# EAGLE library part PIC12*F1822 (library kursach_final)
Low pincount microcontroller http://www.microchip.com/wwwproducts/Devices.aspx?product=PIC12F1822 Properties Parameter Name Value Program Memory Type Flash Program Memory (KB) 3.5 CPU Speed (MIPS) 8 RAM Bytes 128 Data EEPROM (bytes) 256 Digital Communication Peripherals 1-UART, 1-A/E/USART, 1-SPI, 1-I2C1-MSSP(SPI/I2C) Capture/Compare/PWM Peripherals 1 ECCP / Timers 2 x 8-bit, 1 x 16-bit ADC 4 ch, 10-bit Comparators 1 Temperature Range (C) -40 to 125 Operating Voltage Range (V) 1.8 to 5.5 Pin Count 8 XLP Yes Cap Touch Channels 4 Features Enhanced Mid-range Core with 49 Instruction, 16 Stack Levels Flash Program Memory with self read/write capability Internal 32MHz oscillator Integrated Capacitive mTouch Sensing Module Data Signal Modulator Module MI2C, SPI, EUSART w/auto baud ECCP (Enhanced/Capture Compare PWM) Module Comparator with selectable Voltage Reference 4 Channel 10b ADC with Voltage Reference 25mA Source/Sink current I/O Two 8-bit Timers (TMR0/TMR2) One 16-bit Timer (TMR1) Extended Watchdog Timer (EWDT) Enhanced Power-On/Off-Reset Brown-Out Reset (BOR) In Circuit Serial Programming (ICSP) On Board In-Circuit Debug Wide Operating Voltage (1.8V – 5.5V) Low Power PIC12LF182x variants (1.8V – 3.6V) Standby Current (PIC12LF182X): 20 nA @ 1.8V, typical Active Current(PIC12LF1822): 50 uA/MHz @ 1.8V, typical Library from www.mikroelektroniikka.fi/lbr
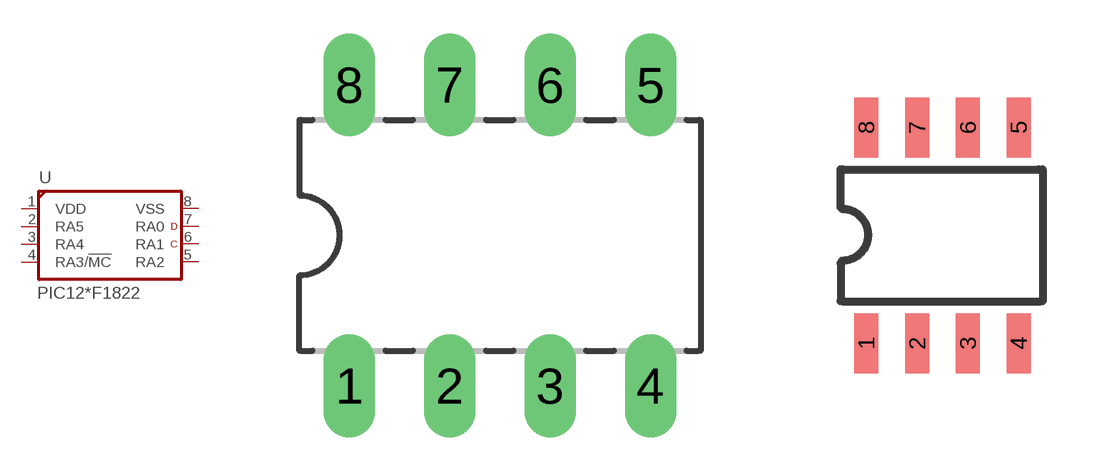
[diagram p5: symbol with the pads of DIL8-P; footprints DIL8-P, SOIC8-SN]

Designator prefix U

## PIC12F1822/P, PIC12LF1822/P  [DIL8-P]
1  VDD  pas
2  RA5
3  RA4
4  RA3/!MC!
5  RA2
6  RA1
7  RA0
8  VSS  pas

## PIC12F1822/SN, PIC12LF1822/SN  [SOIC8-SN]
Pads as for DIL8-P

## PIC12F1822/MF, PIC12LF1822/MF  [DFN8-MF]
1  VDD  pas
2  RA5
3  RA4
4  RA3/!MC!
5  RA2
6  RA1
7  RA0
8  VSS  pas
EP  VSS  pas

## Footprint DIL8-P (pad centres in mm)
PDIP8 (P) 8-Lead plastic dual in line - 300mil body
drill 0.8 pad 1.3 long: 1 -3.81,-3.81; 2 -1.27,-3.81; 3 1.27,-3.81; 4 3.81,-3.81; 5 3.81,3.81; 6 1.27,3.81; 7 -1.27,3.81; 8 -3.81,3.81

## Footprint SOIC8-SN (pad centres in mm)
SOIC8 (SN) 8-Lead plastic small outline - narrow - 3.9 mm body
smd 0.6 x 1.5: 1 -1.905,-2.7; 2 -0.635,-2.7; 3 0.635,-2.7; 4 1.905,-2.7; 5 1.905,2.7; 6 0.635,2.7; 7 -0.635,2.7; 8 -1.905,2.7

## Footprint DFN8-MF (pad centres in mm)
DFN8 (MF) 8-Lead plastic dual flat, no lead package - 3x3x0.9mm (Microchip)
smd 0.35 x 0.475: 1 -0.975,-1.637; 2 -0.325,-1.637; 3 0.325,-1.637; 4 0.975,-1.637; 5 0.975,1.637; 6 0.325,1.637; 7 -0.325,1.637; 8 -0.975,1.637
smd 2.4 x 1.55: EP 0,0